# EAGLE library part 4820P-1 (library passives)
RES ARRAY 10 RES 1K OHM 20SOIC
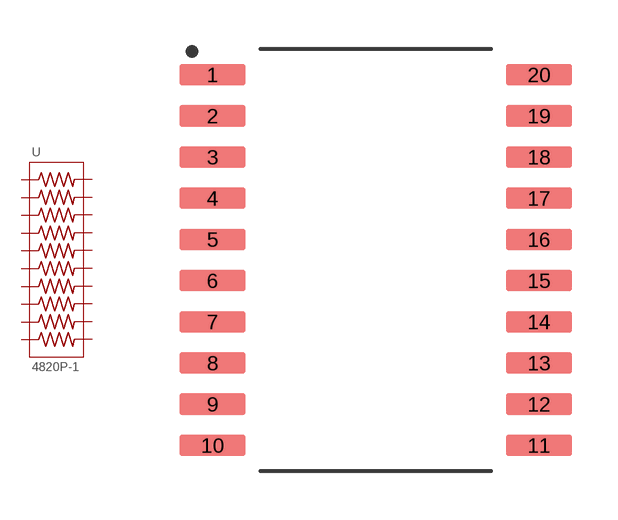
[diagram p0: symbol with the pads of SOIC-20; footprint SOIC-20]

Designator prefix U

## 4820P-1-102 (MF: Bourns; MP: 4820P-1-102LF; VALUE: 10x 1K)  [SOIC-20]
1  1  pas
2  2  pas
3  3  pas
4  4  pas
5  5  pas
6  6  pas
7  7  pas
8  8  pas
9  9  pas
10  10  pas
11  11  pas
12  12  pas
13  13  pas
14  14  pas
15  15  pas
16  16  pas
17  17  pas
18  18  pas
19  19  pas
20  20  pas

## Footprint SOIC-20 (pad centres in mm)
20-Lead (300-MIL) SOIC S5 Source: www.cypress.com .. CY7C6301XX.pdf
smd 2.032 x 0.66: 1 -5.029,5.715; 2 -5.029,4.445; 3 -5.029,3.175; 4 -5.029,1.905; 5 -5.029,0.635; 6 -5.029,-0.635; 7 -5.029,-1.905; 8 -5.029,-3.175; 9 -5.029,-4.445; 10 -5.029,-5.715; 11 5.029,-5.715; 12 5.029,-4.445; 13 5.029,-3.175; 14 5.029,-1.905; 15 5.029,-0.635; 16 5.029,0.635; 17 5.029,1.905; 18 5.029,3.175; 19 5.029,4.445; 20 5.029,5.715